# EAGLE library part SNX5LBC180 (library My_TI)
LOW-POWER RS-485 LINE DRIVER AND RECEIVER PAIRS
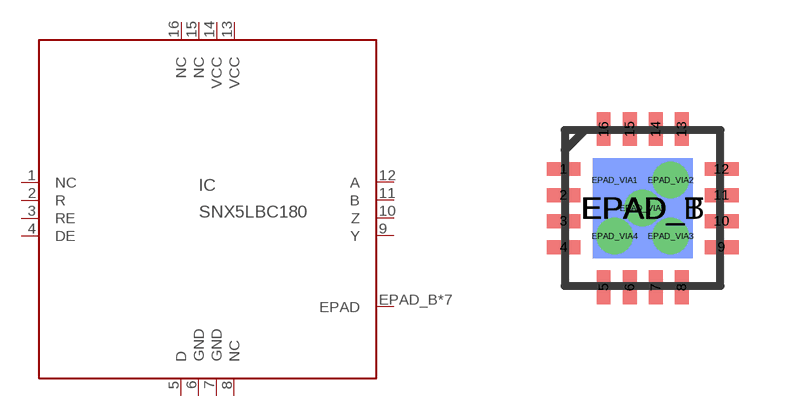
[diagram p12: symbol with the pads of QFN16; footprint QFN16]

Designator prefix IC

## SNX5LBC180  [QFN16]
1  NC
2  R
3  RE
4  DE
5  D
6  GND  pwr
7  GND  pwr
8  NC
9  Y
10  Z
11  B
12  A
13  VCC  pwr
14  VCC  pwr
15  NC
16  NC
EPAD_B  EPAD
EPAD_T  EPAD
EPAD_VIA1  EPAD
EPAD_VIA2  EPAD
EPAD_VIA3  EPAD
EPAD_VIA4  EPAD
EPAD_VIA5  EPAD

## Footprint QFN16 (pad centres in mm)
QFN16 Auto generated by make-symbol-device-package-bsdl.ulp Rev. 43
smd 0.85 x 0.35: 1 -1.975,0.975; 2 -1.975,0.325; 3 -1.975,-0.325; 4 -1.975,-0.975; 9 1.975,-0.975; 10 1.975,-0.325; 11 1.975,0.325; 12 1.975,0.975
smd 0.35 x 0.85: 5 -0.975,-1.975; 6 -0.325,-1.975; 7 0.325,-1.975; 8 0.975,-1.975; 13 0.975,1.975; 14 0.325,1.975; 15 -0.325,1.975; 16 -0.975,1.975
smd 2.5 x 2.5 bottom: EPAD_B 0,0
smd 2.5 x 2.5: EPAD_T 0,0
drill 0.4 pad 0.813: EPAD_VIA1 -0.7,0.7; EPAD_VIA2 0.7,0.7; EPAD_VIA3 0.7,-0.7; EPAD_VIA4 -0.7,-0.7; EPAD_VIA5 0,0